# Altium schematic symbol library EFM32PG1B200F256GM48.SchLib: 1 symbol
Pins are listed as number, name and electrical type; pins without a type are passive.

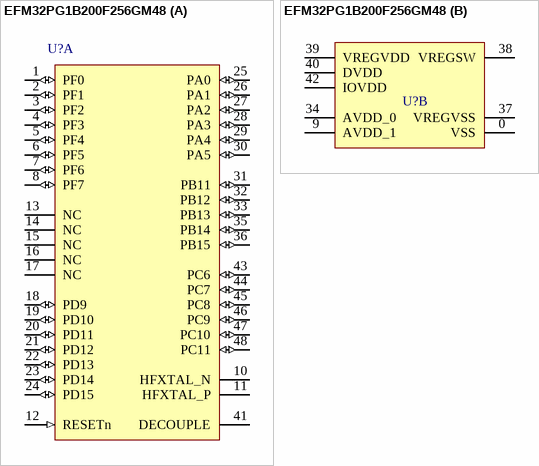
[diagram p0: symbol EFM32PG1B200F256GM48]

## EFM32PG1B200F256GM48
designator U?
part A pins: 1 PF0 (io), 2 PF1 (io), 3 PF2 (io), 4 PF3 (io), 5 PF4 (io), 6 PF5 (io), 7 PF6 (io), 8 PF7 (io), 10 HFXTAL_N "EZRadio peripheral crystal oscillator input. Connect to an external 26/30 MHz crystal or leave floating if driving the XOUT pin with an external signal source.", 11 HFXTAL_P "EZRadio peripheral crystal oscillator output. Connect to an external 26/30 MHz crystal or to an external clock source. If using an external clock source with no crystal, dc coupling with a nominal 0.8 VDC level is recommended with a minimum ac amplitude of 700 mVpp. Refer to AN417 for more details about using an external clock source.", 12 RESETn (in) "Reset input, active low.To apply an external reset source to this pin, it is required to only drive this pin low during reset, and let the internal pull-up ensure that reset is released.", 13 NC "No connect.", 14 NC "No connect.", 15 NC "No connect.", 16 NC "No connect.", 17 NC "No connect.", 18 PD9 (io), 19 PD10 (io), 20 PD11 (io), 21 PD12 (io), 22 PD13 (io), 23 PD14 (io), 24 PD15 (io), 25 PA0 (io), 26 PA1 (io), 27 PA2 (io), 28 PA3 (io), 29 PA4 (io), 30 PA5 (io), 31 PB11 (io), 32 PB12 (io), 33 PB13 (io), 35 PB14 (io), 36 PB15 (io), 41 DECOUPLE (power) "Digital IO power supply 0.", 43 PC6 (io), 44 PC7 (io), 45 PC8 (io), 46 PC9 (io), 47 PC10 (io), 48 PC11 (io)
part B pins: 0 VSS (power) "Ground.", 9 AVDD_1 (power) "Analog power supply 1.", 34 AVDD_0 (power) "Analog power supply 0.", 37 VREGVSS (power) "+1.8 to +3.6 V Supply Voltage Input to Internal Regulators for the Radio. The recommended VDD supply voltage is +3.3 V.", 38 VREGSW (power) "+1.8 to +3.6 V Supply Voltage Input to Internal Regulators for the Radio. The recommended VDD supply voltage is +3.3 V.", 39 VREGVDD (power) "Digital IO power supply 5.", 40 DVDD (power) "Digital IO power supply 3.", 42 IOVDD (power) "Power supply for on-chip voltage regulator."